# Altium footprint library CE_4x7.PcbLib: 1 footprints
Each footprint in its own frame and in the unit in brackets; x right, y up, seen from the top. Pads: shape width x height; smd on the part's side, far side on the other; paste and mask are expansions set on the pad; w line width, h text height; cw(c..) or ccw(c..) is an arc to the next point about the centre after c.
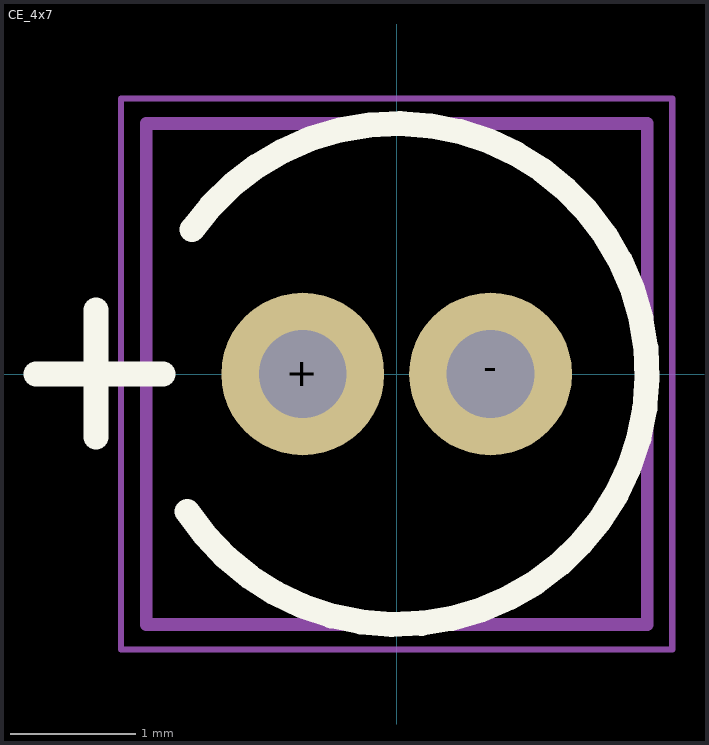
[diagram p0: the footprint, top view; thin cyan lines are the x and y axes]

## CE_4x7 [mm]
height 7
pads (2):
  round 1.3 hole 0.7: +(-0.75,0) -(0.75,0)
Top Overlay:
  lines w0.2: -2.881,0 -1.865,0 ; -2.4,-0.504 -2.4,0.512 ; -1.672,-1.098 ccw(c0,0) -1.633,1.155
Top Assembly:
  lines w0.1: -2,-2 2,-2 2,2 -2,2 -2,-2
Top Courtyard:
  lines w0.05: -2.2,-2.2 2.2,-2.2 2.2,2.2 -2.2,2.2 -2.2,-2.2
Top Designator:
  text ".Designator" at -5.018,-0.333 h1
3D body "User Library-Cap electrolitic radial 4x7.STEP": height 7.1, standoff -1.4, extent -1.999,-1.999 1.999,1.999